# Altium schematic symbol library ACPL-W70L-000E.Schlib: 1 symbol
Pins are listed as number, name and electrical type; pins without a type are passive.

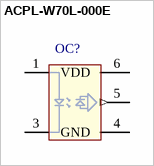
[diagram p0: symbol ACPL-W70L-000E]

## ACPL-W70L-000E
designator OC?  (value not drawn)
pins: 1 A, 3 K, 4 GND (power), 5 Vo (out), 6 VDD (power)